# Altium footprint library PcbLib1.PcbLib: 5 footprints
Each footprint in its own frame and in the unit in brackets; x right, y up, seen from the top. Pads: shape width x height; smd on the part's side, far side on the other; paste and mask are expansions set on the pad; w line width, h text height; cw(c..) or ccw(c..) is an arc to the next point about the centre after c.
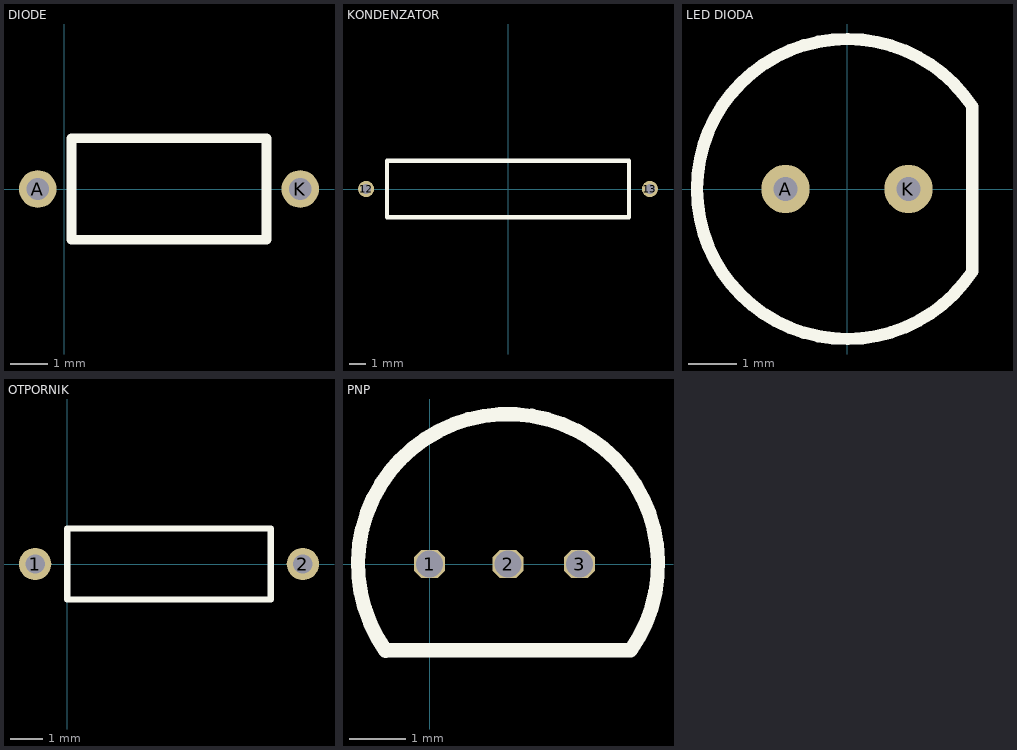
[diagram p0: the footprints below, top view; thin cyan lines are the x and y axes]

## DIODE [mm]
pads (2):
  round 1 hole 0.6: A(-0.7,0) K(6.3,0)
Top Overlay:
  lines w0.254: 0.2,-1.35 0.2,1.35 5.4,1.35 5.4,-1.35 0.2,-1.35

## KONDENZATOR [mm]
pads (2):
  round 1 hole 0.6: 12(-8.8,0) 13(8.8,0)
Top Overlay:
  lines w0.254: -7.5,-1.75 -7.5,1.75 7.5,1.75 7.5,-1.75 -7.5,-1.75

## LED DIODA [mm]
pads (2):
  round 1 hole 0.5: A(-1.27,0) K(1.27,0)
Top Overlay:
  lines w0.254: 2.589,-1.705 cw(c0,0) 2.589,1.705 2.589,-1.705

## OTPORNIK [mm]
pads (2):
  round 1 hole 0.6: 1(-1,0) 2(7.3,0)
Top Overlay:
  lines w0.2: 0,-1.1 6.3,-1.1 6.3,1.1 0,1.1 0,-1.1

## PNP [mm]
pads (3):
  oct 0.55x0.5 hole 0.48: 1(0,0) 2(1.39,0) 3(2.66,0)
Top Overlay:
  lines w0.254: -0.778,-1.541 cw(c1.39,0) 3.563,-1.535 ; -0.762,-1.53 3.556,-1.53